# Altium schematic symbol library TPS4813.Schlib: 1 symbol
Pins are listed as number, name and electrical type; pins without a type are passive.

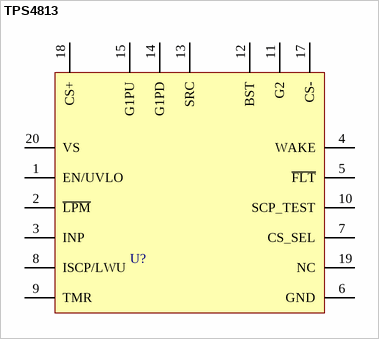
[diagram p0: symbol TPS4813]

## TPS4813
designator U?
High-Side Protection Controller
pins: 1 EN/UVLO, 2 ~{LPM}, 3 INP, 4 WAKE, 5 ~{FLT}, 6 GND, 7 CS_SEL, 8 ISCP/LWU, 9 TMR, 10 SCP_TEST, 11 G2, 12 BST, 13 SRC, 14 G1PD, 15 G1PU, 17 CS-, 18 CS+, 19 NC, 20 VS